# Altium footprint library PcbLib1.PcbLib: 20 footprints (part 2 of 2)
Each footprint in its own frame and in the unit in brackets; x right, y up, seen from the top. Pads: shape width x height; smd on the part's side, far side on the other; paste and mask are expansions set on the pad; w line width, h text height; cw(c..) or ccw(c..) is an arc to the next point about the centre after c.
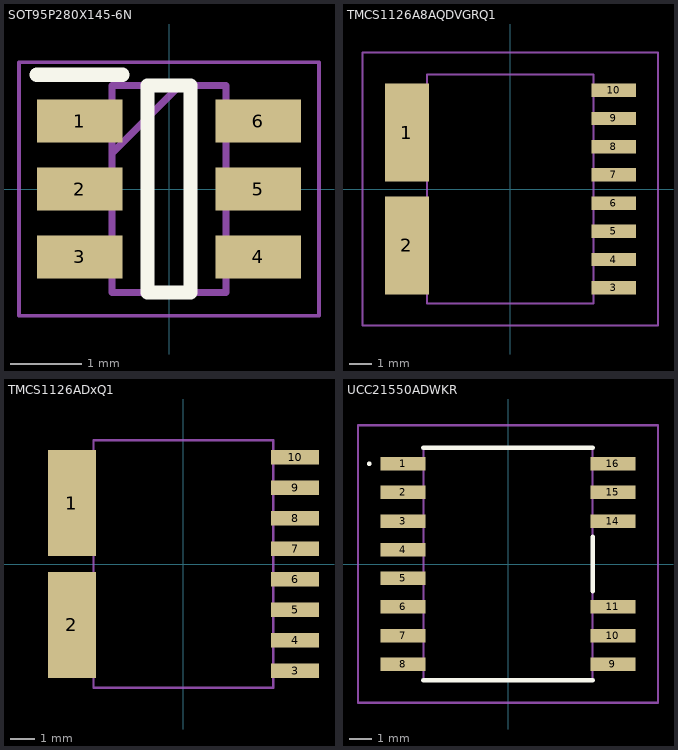
[diagram p1: the footprints below, top view; thin cyan lines are the x and y axes]

## SOT95P280X145-6N [mm]
pads (6):
  rect 1.2x0.6 smd: 1(-1.25,0.95) 2(-1.25,0) 3(-1.25,-0.95) 4(1.25,-0.95) 5(1.25,0) 6(1.25,0.95)
Top Overlay:
  lines w0.2: -1.85,1.6 -0.65,1.6 ; -0.3,-1.45 -0.3,1.45 0.3,1.45 0.3,-1.45 -0.3,-1.45
Mechanical 13:
  lines w0.1: -0.8,0.5 0.15,1.45 ; -0.8,-1.45 -0.8,1.45 0.8,1.45 0.8,-1.45 -0.8,-1.45
Mechanical 15:
  lines w0.05: -2.1,-1.775 -2.1,1.775 2.1,1.775 2.1,-1.775 -2.1,-1.775
3D body "ADC121S051CIMF.stp": height 1.2, standoff 0, extent -1.4,-1.45 1.4,1.45

## TMCS1126A8AQDVGRQ1 [mm]
pads (10):
  rect 2x4.41 smd: 1(-4.65,2.54) 2(-4.65,-2.54)
  rect 2x0.6 smd: 3(4.65,-4.445) 4(4.65,-3.175) 5(4.65,-1.905) 6(4.65,-0.635) 7(4.65,0.635) 8(4.65,1.905) 9(4.65,3.175) 10(4.65,4.445)
Mechanical 13:
  lines w0.1: -3.75,-5.15 3.75,-5.15 3.75,5.15 -3.75,5.15 -3.75,-5.15
Mechanical 15:
  lines w0.1: -6.65,-6.15 6.65,-6.15 6.65,6.15 -6.65,6.15 -6.65,-6.15
3D body "TMCS1126A8AQDVGRQ1.stp": height 2.75, standoff 0, extent -3.75,-5.15 3.75,5.15

## TMCS1126ADxQ1 [mm]
pads (10):
  rect 2x4.41 smd: 1(-4.65,2.54) 2(-4.65,-2.54)
  rect 2x0.6 smd: 3(4.65,-4.445) 4(4.65,-3.175) 5(4.65,-1.905) 6(4.65,-0.635) 7(4.65,0.635) 8(4.65,1.905) 9(4.65,3.175) 10(4.65,4.445)
Mechanical 13:
  lines w0.1: -3.75,-5.15 -3.75,5.15 3.75,5.15 3.75,-5.15 -3.75,-5.15
3D body "TMCS1126ADx-Q1.stp": height 2.75, standoff 0, extent -3.75,-5.15 3.75,5.15

## UCC21550ADWKR [mm]
pads (14):
  rect 2x0.6 smd: 1(-4.65,4.445) 2(-4.65,3.175) 3(-4.65,1.905) 4(-4.65,0.635) 5(-4.65,-0.635) 6(-4.65,-1.905) 7(-4.65,-3.175) 8(-4.65,-4.445) 9(4.65,-4.445) 10(4.65,-3.175) 11(4.65,-1.905) 14(4.65,1.905) 15(4.65,3.175) 16(4.65,4.445)
Top Overlay:
  lines w0.1: -6.2,4.445 ccw(c-6.15,4.445) -6.1,4.445 ccw(c-6.15,4.445) -6.2,4.445
  lines w0.2: -3.75,-5.15 3.75,-5.15 ; -3.75,5.15 3.75,5.15 ; 3.75,-1.2 3.75,1.2
Mechanical 13:
  lines w0.1: -3.75,-5.15 -3.75,5.15 3.75,5.15 3.75,-5.15 -3.75,-5.15
Mechanical 15:
  lines w0.1: -6.65,-6.15 -6.65,6.15 6.65,6.15 6.65,-6.15 -6.65,-6.15
3D body "UCC21550ADWKR.stp": height 2.75, standoff 0, extent -3.75,-5.15 3.75,5.15